# Altium schematic symbol library LDR.SchLib: 1 symbol
Pins are listed as number, name and electrical type; pins without a type are passive.

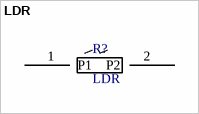
[diagram p0: symbol LDR]

## LDR
designator R?
Light dependent resistor symbol
pins: 1 P1, 2 P2